# Altium schematic symbol library IC_RELAY_1_FORM_C.SchLib: 1 symbol
Pins are listed as number, name and electrical type; pins without a type are passive.

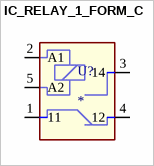
[diagram p0: symbol IC_RELAY_1_FORM_C]

## IC_RELAY_1_FORM_C
designator U?
pins: 1 11, 2 A1, 3 14, 4 12, 5 A2